# Altium footprint library G6S-2F.PcbLib: 1 footprints
Each footprint in its own frame and in the unit in brackets; x right, y up, seen from the top. Pads: shape width x height; smd on the part's side, far side on the other; paste and mask are expansions set on the pad; w line width, h text height; cw(c..) or ccw(c..) is an arc to the next point about the centre after c.
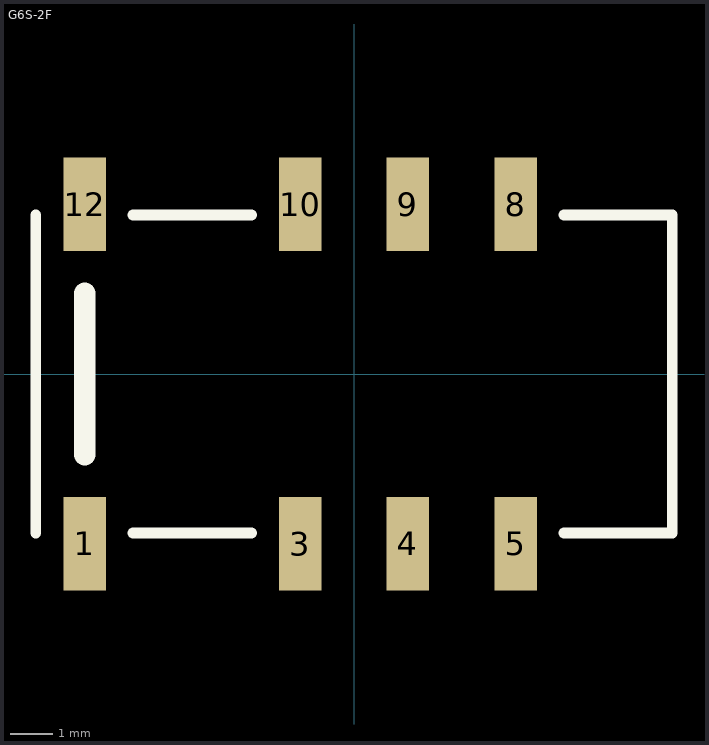
[diagram p0: the footprint, top view; thin cyan lines are the x and y axes]

## G6S-2F [mm]
pads (8):
  rect 1x2.2 smd: 1(-6.35,-4) 3(-1.27,-4) 4(1.27,-4) 5(3.81,-4) 8(3.81,4) 9(1.27,4) 10(-1.27,4) 12(-6.35,4)
Top Overlay:
  lines w0.254: -7.5,-3.75 -7.5,3.75 ; -5.207,-3.75 -2.413,-3.75 ; -5.207,3.75 -2.413,3.75 ; 4.953,-3.75 7.5,-3.75 7.5,3.75 4.953,3.75
  lines w0.508: -6.35,-1.905 -6.35,1.905
3D body: height 9.4, standoff 0, extent -7.493,-3.759 7.493,3.734